# Altium integrated library ALTIUM-WE-LQSH-rev18a.IntLib: 28 symbols
Pins are listed as number, name and electrical type; pins without a type are passive.

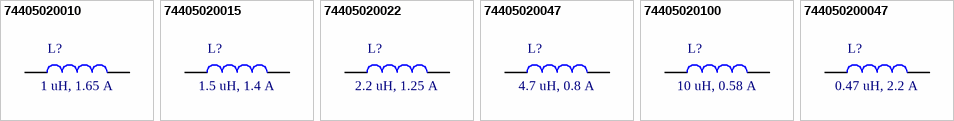
[diagram p0: symbols 74405020010 to 744050200047]

## 74405020010
designator L?, comment 1 uH, 1.65 A
SMT Semi-Shielded High Saturation Power Inductor WE-LQSH, size 2010, 1 uH, 1.65 A; Part Number: 74405020010; Rated Current: 1.65 A; Inductance: 1 uH; DC Resistance max.: 90 mOhm; Self Resonant Frequency: 84 MHz; Saturation Current: 3.85 A; Peak Voltage max.: 25 V; ComponentLink1Description: Manufacturer; ComponentLink1URL: http://www.we-online.de; ComponentLink2Description: Datasheet; ComponentLink2URL: https://katalog.we-online.de/pbs/datasheet/74405020010.pdf; Published Date: November 2018; Publisher: Wurth Elektronik; Size: 2010; Operating Temperature: -40 to +125 degC; Mounting Technology: SMT; Packaging: Tape and Reel
footprint WE-LQSH_2010
pins: 1, 2

## 74405020015
designator L?, comment 1.5 uH, 1.4 A
SMT Semi-Shielded High Saturation Power Inductor WE-LQSH, size 2010, 1.5 uH, 1.4 A; Part Number: 74405020015; Rated Current: 1.4 A; Inductance: 1.5 uH; DC Resistance max.: 132 mOhm; Self Resonant Frequency: 74 MHz; Saturation Current: 2.3 A; Peak Voltage max.: 25 V; ComponentLink1Description: Manufacturer; ComponentLink1URL: http://www.we-online.de; ComponentLink2Description: Datasheet; ComponentLink2URL: https://katalog.we-online.de/pbs/datasheet/74405020015.pdf; Published Date: November 2018; Publisher: Wurth Elektronik; Size: 2010; Operating Temperature: -40 to +125 degC; Mounting Technology: SMT; Packaging: Tape and Reel
footprint WE-LQSH_2010
pins: 1, 2

## 74405020022
designator L?, comment 2.2 uH, 1.25 A
SMT Semi-Shielded High Saturation Power Inductor WE-LQSH, size 2010, 2.2 uH, 1.25 A; Part Number: 74405020022; Rated Current: 1.25 A; Inductance: 2.2 uH; DC Resistance max.: 170 mOhm; Self Resonant Frequency: 53 MHz; Saturation Current: 2.15 A; Peak Voltage max.: 25 V; ComponentLink1Description: Manufacturer; ComponentLink1URL: http://www.we-online.de; ComponentLink2Description: Datasheet; ComponentLink2URL: https://katalog.we-online.de/pbs/datasheet/74405020022.pdf; Published Date: November 2018; Publisher: Wurth Elektronik; Size: 2010; Operating Temperature: -40 to +125 degC; Mounting Technology: SMT; Packaging: Tape and Reel
footprint WE-LQSH_2010
pins: 1, 2

## 74405020047
designator L?, comment 4.7 uH, 0.8 A
SMT Semi-Shielded High Saturation Power Inductor WE-LQSH, size 2010, 4.7 uH, 0.8 A; Part Number: 74405020047; Rated Current: 0.8 A; Inductance: 4.7 uH; DC Resistance max.: 444 mOhm; Self Resonant Frequency: 35 MHz; Saturation Current: 1.5 A; Peak Voltage max.: 25 V; ComponentLink1Description: Manufacturer; ComponentLink1URL: http://www.we-online.de; ComponentLink2Description: Datasheet; ComponentLink2URL: https://katalog.we-online.de/pbs/datasheet/74405020047.pdf; Published Date: November 2018; Publisher: Wurth Elektronik; Size: 2010; Operating Temperature: -40 to +125 degC; Mounting Technology: SMT; Packaging: Tape and Reel
footprint WE-LQSH_2010
pins: 1, 2

## 74405020100
designator L?, comment 10 uH, 0.58 A
SMT Semi-Shielded High Saturation Power Inductor WE-LQSH, size 2010, 10 uH, 0.58 A; Part Number: 74405020100; Rated Current: 0.58 A; Inductance: 10 uH; DC Resistance max.: 816 mOhm; Self Resonant Frequency: 22 MHz; Saturation Current: 0.95 A; Peak Voltage max.: 25 V; ComponentLink1Description: Manufacturer; ComponentLink1URL: http://www.we-online.de; ComponentLink2Description: Datasheet; ComponentLink2URL: https://katalog.we-online.de/pbs/datasheet/74405020100.pdf; Published Date: November 2018; Publisher: Wurth Elektronik; Size: 2010; Operating Temperature: -40 to +125 degC; Mounting Technology: SMT; Packaging: Tape and Reel
footprint WE-LQSH_2010
pins: 1, 2

## 744050200047
designator L?, comment 0.47 uH, 2.2 A
SMT Semi-Shielded High Saturation Power Inductor WE-LQSH, size 2010, 0.47 uH, 2.2 A; Part Number: 744050200047; Rated Current: 2.2 A; Inductance: 0.47 uH; DC Resistance max.: 49 mOhm; Self Resonant Frequency: 159 MHz; Saturation Current: 4.7 A; Peak Voltage max.: 25 V; ComponentLink1Description: Manufacturer; ComponentLink1URL: http://www.we-online.de; ComponentLink2Description: Datasheet; ComponentLink2URL: https://katalog.we-online.de/pbs/datasheet/744050200047.pdf; Published Date: November 2018; Publisher: Wurth Elektronik; Size: 2010; Operating Temperature: -40 to +125 degC; Mounting Technology: SMT; Packaging: Tape and Reel
footprint WE-LQSH_2010
pins: 1, 2


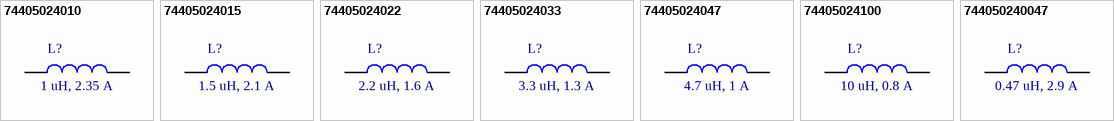
[diagram p1: symbols 74405024010 to 744050240047]

## 74405024010
designator L?, comment 1 uH, 2.35 A
SMT Semi-Shielded High Saturation Power Inductor WE-LQSH, size 2512, 1 uH, 2.35 A; Part Number: 74405024010; Rated Current: 2.35 A; Inductance: 1 uH; DC Resistance max.: 58 mOhm; Self Resonant Frequency: 87 MHz; Saturation Current: 4.2 A; Peak Voltage max.: 25 V; ComponentLink1Description: Manufacturer; ComponentLink1URL: http://www.we-online.de; ComponentLink2Description: Datasheet; ComponentLink2URL: https://katalog.we-online.de/pbs/datasheet/74405024010.pdf; Published Date: November 2018; Publisher: Wurth Elektronik; Size: 2512; Operating Temperature: -40 to +125 degC; Mounting Technology: SMT; Packaging: Tape and Reel
footprint WE-LQSH_2512
pins: 1, 2

## 74405024015
designator L?, comment 1.5 uH, 2.1 A
SMT Semi-Shielded High Saturation Power Inductor WE-LQSH, size 2512, 1.5 uH, 2.1 A; Part Number: 74405024015; Rated Current: 2.1 A; Inductance: 1.5 uH; DC Resistance max.: 72 mOhm; Self Resonant Frequency: 68 MHz; Saturation Current: 3.5 A; Peak Voltage max.: 25 V; ComponentLink1Description: Manufacturer; ComponentLink1URL: http://www.we-online.de; ComponentLink2Description: Datasheet; ComponentLink2URL: https://katalog.we-online.de/pbs/datasheet/74405024015.pdf; Published Date: November 2018; Publisher: Wurth Elektronik; Size: 2512; Operating Temperature: -40 to +125 degC; Mounting Technology: SMT; Packaging: Tape and Reel
footprint WE-LQSH_2512
pins: 1, 2

## 74405024022
designator L?, comment 2.2 uH, 1.6 A
SMT Semi-Shielded High Saturation Power Inductor WE-LQSH, size 2512, 2.2 uH, 1.6 A; Part Number: 74405024022; Rated Current: 1.6 A; Inductance: 2.2 uH; DC Resistance max.: 120 mOhm; Self Resonant Frequency: 46 MHz; Saturation Current: 3 A; Peak Voltage max.: 25 V; ComponentLink1Description: Manufacturer; ComponentLink1URL: http://www.we-online.de; ComponentLink2Description: Datasheet; ComponentLink2URL: https://katalog.we-online.de/pbs/datasheet/74405024022.pdf; Published Date: November 2018; Publisher: Wurth Elektronik; Size: 2512; Operating Temperature: -40 to +125 degC; Mounting Technology: SMT; Packaging: Tape and Reel
footprint WE-LQSH_2512
pins: 1, 2

## 74405024033
designator L?, comment 3.3 uH, 1.3 A
SMT Semi-Shielded High Saturation Power Inductor WE-LQSH, size 2512, 3.3 uH, 1.3 A; Part Number: 74405024033; Rated Current: 1.3 A; Inductance: 3.3 uH; DC Resistance max.: 163 mOhm; Self Resonant Frequency: 37 MHz; Saturation Current: 2.1 A; Peak Voltage max.: 25 V; ComponentLink1Description: Manufacturer; ComponentLink1URL: http://www.we-online.de; ComponentLink2Description: Datasheet; ComponentLink2URL: https://katalog.we-online.de/pbs/datasheet/74405024033.pdf; Published Date: November 2018; Publisher: Wurth Elektronik; Size: 2512; Operating Temperature: -40 to +125 degC; Mounting Technology: SMT; Packaging: Tape and Reel
footprint WE-LQSH_2512
pins: 1, 2

## 74405024047
designator L?, comment 4.7 uH, 1 A
SMT Semi-Shielded High Saturation Power Inductor WE-LQSH, size 2512, 4.7 uH, 1 A; Part Number: 74405024047; Rated Current: 1 A; Inductance: 4.7 uH; DC Resistance max.: 270 mOhm; Self Resonant Frequency: 30 MHz; Saturation Current: 1.9 A; Peak Voltage max.: 25 V; ComponentLink1Description: Manufacturer; ComponentLink1URL: http://www.we-online.de; ComponentLink2Description: Datasheet; ComponentLink2URL: https://katalog.we-online.de/pbs/datasheet/74405024047.pdf; Published Date: November 2018; Publisher: Wurth Elektronik; Size: 2512; Operating Temperature: -40 to +125 degC; Mounting Technology: SMT; Packaging: Tape and Reel
footprint WE-LQSH_2512
pins: 1, 2

## 74405024100
designator L?, comment 10 uH, 0.8 A
SMT Semi-Shielded High Saturation Power Inductor WE-LQSH, size 2512, 10 uH, 0.8 A; Part Number: 74405024100; Rated Current: 0.8 A; Inductance: 10 uH; DC Resistance max.: 522 mOhm; Self Resonant Frequency: 20 MHz; Saturation Current: 1.2 A; Peak Voltage max.: 25 V; ComponentLink1Description: Manufacturer; ComponentLink1URL: http://www.we-online.de; ComponentLink2Description: Datasheet; ComponentLink2URL: https://katalog.we-online.de/pbs/datasheet/74405024100.pdf; Published Date: November 2018; Publisher: Wurth Elektronik; Size: 2512; Operating Temperature: -40 to +125 degC; Mounting Technology: SMT; Packaging: Tape and Reel
footprint WE-LQSH_2512
pins: 1, 2

## 744050240047
designator L?, comment 0.47 uH, 2.9 A
SMT Semi-Shielded High Saturation Power Inductor WE-LQSH, size 2512, 0.47 uH, 2.9 A; Part Number: 744050240047; Rated Current: 2.9 A; Inductance: 0.47 uH; DC Resistance max.: 35 mOhm; Self Resonant Frequency: 129 MHz; Saturation Current: 5.6 A; Peak Voltage max.: 25 V; ComponentLink1Description: Manufacturer; ComponentLink1URL: http://www.we-online.de; ComponentLink2Description: Datasheet; ComponentLink2URL: https://katalog.we-online.de/pbs/datasheet/744050240047.pdf; Published Date: November 2018; Publisher: Wurth Elektronik; Size: 2512; Operating Temperature: -40 to +125 degC; Mounting Technology: SMT; Packaging: Tape and Reel
footprint WE-LQSH_2512
pins: 1, 2


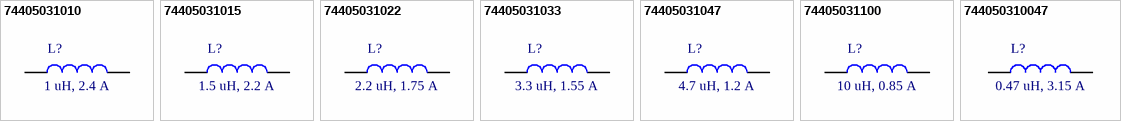
[diagram p2: symbols 74405031010 to 744050310047]

## 74405031010
designator L?, comment 1 uH, 2.4 A
SMT Semi-Shielded High Saturation Power Inductor WE-LQSH, size 3012, 1 uH, 2.4 A; Part Number: 74405031010; Rated Current: 2.4 A; Inductance: 1 uH; DC Resistance max.: 54 mOhm; Self Resonant Frequency: 66 MHz; Saturation Current: 5.4 A; Peak Voltage max.: 25 V; ComponentLink1Description: Manufacturer; ComponentLink1URL: http://www.we-online.de; ComponentLink2Description: Datasheet; ComponentLink2URL: https://katalog.we-online.de/pbs/datasheet/74405031010.pdf; Published Date: November 2018; Publisher: Wurth Elektronik; Size: 3012; Operating Temperature: -40 to +125 degC; Mounting Technology: SMT; Packaging: Tape and Reel
footprint WE-LQSH_3012
pins: 1, 2

## 74405031015
designator L?, comment 1.5 uH, 2.2 A
SMT Semi-Shielded High Saturation Power Inductor WE-LQSH, size 3012, 1.5 uH, 2.2 A; Part Number: 74405031015; Rated Current: 2.2 A; Inductance: 1.5 uH; DC Resistance max.: 77 mOhm; Self Resonant Frequency: 60 MHz; Saturation Current: 4.1 A; Peak Voltage max.: 25 V; ComponentLink1Description: Manufacturer; ComponentLink1URL: http://www.we-online.de; ComponentLink2Description: Datasheet; ComponentLink2URL: https://katalog.we-online.de/pbs/datasheet/74405031015.pdf; Published Date: November 2018; Publisher: Wurth Elektronik; Size: 3012; Operating Temperature: -40 to +125 degC; Mounting Technology: SMT; Packaging: Tape and Reel
footprint WE-LQSH_3012
pins: 1, 2

## 74405031022
designator L?, comment 2.2 uH, 1.75 A
SMT Semi-Shielded High Saturation Power Inductor WE-LQSH, size 3012, 2.2 uH, 1.75 A; Part Number: 74405031022; Rated Current: 1.75 A; Inductance: 2.2 uH; DC Resistance max.: 108 mOhm; Self Resonant Frequency: 46 MHz; Saturation Current: 3.35 A; Peak Voltage max.: 25 V; ComponentLink1Description: Manufacturer; ComponentLink1URL: http://www.we-online.de; ComponentLink2Description: Datasheet; ComponentLink2URL: https://katalog.we-online.de/pbs/datasheet/74405031022.pdf; Published Date: November 2018; Publisher: Wurth Elektronik; Size: 3012; Operating Temperature: -40 to +125 degC; Mounting Technology: SMT; Packaging: Tape and Reel
footprint WE-LQSH_3012
pins: 1, 2

## 74405031033
designator L?, comment 3.3 uH, 1.55 A
SMT Semi-Shielded High Saturation Power Inductor WE-LQSH, size 3012, 3.3 uH, 1.55 A; Part Number: 74405031033; Rated Current: 1.55 A; Inductance: 3.3 uH; DC Resistance max.: 155 mOhm; Self Resonant Frequency: 39 MHz; Saturation Current: 2.6 A; Peak Voltage max.: 25 V; ComponentLink1Description: Manufacturer; ComponentLink1URL: http://www.we-online.de; ComponentLink2Description: Datasheet; ComponentLink2URL: https://katalog.we-online.de/pbs/datasheet/74405031033.pdf; Published Date: November 2018; Publisher: Wurth Elektronik; Size: 3012; Operating Temperature: -40 to +125 degC; Mounting Technology: SMT; Packaging: Tape and Reel
footprint WE-LQSH_3012
pins: 1, 2

## 74405031047
designator L?, comment 4.7 uH, 1.2 A
SMT Semi-Shielded High Saturation Power Inductor WE-LQSH, size 3012, 4.7 uH, 1.2 A; Part Number: 74405031047; Rated Current: 1.2 A; Inductance: 4.7 uH; DC Resistance max.: 235 mOhm; Self Resonant Frequency: 30 MHz; Saturation Current: 2.5 A; Peak Voltage max.: 25 V; ComponentLink1Description: Manufacturer; ComponentLink1URL: http://www.we-online.de; ComponentLink2Description: Datasheet; ComponentLink2URL: https://katalog.we-online.de/pbs/datasheet/74405031047.pdf; Published Date: November 2018; Publisher: Wurth Elektronik; Size: 3012; Operating Temperature: -40 to +125 degC; Mounting Technology: SMT; Packaging: Tape and Reel
footprint WE-LQSH_3012
pins: 1, 2

## 74405031100
designator L?, comment 10 uH, 0.85 A
SMT Semi-Shielded High Saturation Power Inductor WE-LQSH, size 3012, 10 uH, 0.85 A; Part Number: 74405031100; Rated Current: 0.85 A; Inductance: 10 uH; DC Resistance max.: 474 mOhm; Self Resonant Frequency: 21 MHz; Saturation Current: 1.45 A; Peak Voltage max.: 25 V; ComponentLink1Description: Manufacturer; ComponentLink1URL: http://www.we-online.de; ComponentLink2Description: Datasheet; ComponentLink2URL: https://katalog.we-online.de/pbs/datasheet/74405031100.pdf; Published Date: November 2018; Publisher: Wurth Elektronik; Size: 3012; Operating Temperature: -40 to +125 degC; Mounting Technology: SMT; Packaging: Tape and Reel
footprint WE-LQSH_3012
pins: 1, 2

## 744050310047
designator L?, comment 0.47 uH, 3.15 A
SMT Semi-Shielded High Saturation Power Inductor WE-LQSH, size 3012, 0.47 uH, 3.15 A; Part Number: 744050310047; Rated Current: 3.15 A; Inductance: 0.47 uH; DC Resistance max.: 34 mOhm; Self Resonant Frequency: 121 MHz; Saturation Current: 8 A; Peak Voltage max.: 25 V; ComponentLink1Description: Manufacturer; ComponentLink1URL: http://www.we-online.de; ComponentLink2Description: Datasheet; ComponentLink2URL: https://katalog.we-online.de/pbs/datasheet/744050310047.pdf; Published Date: November 2018; Publisher: Wurth Elektronik; Size: 3012; Operating Temperature: -40 to +125 degC; Mounting Technology: SMT; Packaging: Tape and Reel
footprint WE-LQSH_3012
pins: 1, 2


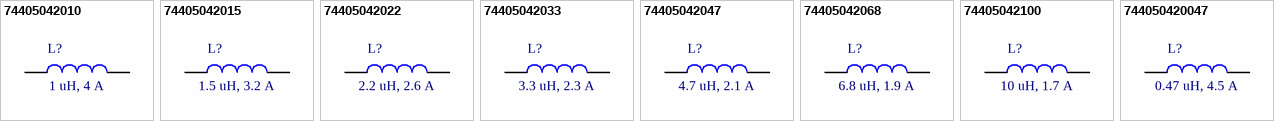
[diagram p3: symbols 74405042010 to 744050420047]

## 74405042010
designator L?, comment 1 uH, 4 A
SMT Semi-Shielded High Saturation Power Inductor WE-LQSH, size 4020, 1 uH, 4 A; Part Number: 74405042010; Rated Current: 4 A; Inductance: 1 uH; DC Resistance max.: 26 mOhm; Self Resonant Frequency: 55 MHz; Saturation Current: 9.5 A; Peak Voltage max.: 25 V; ComponentLink1Description: Manufacturer; ComponentLink1URL: http://www.we-online.de; ComponentLink2Description: Datasheet; ComponentLink2URL: https://katalog.we-online.de/pbs/datasheet/74405042010.pdf; Published Date: November 2018; Publisher: Wurth Elektronik; Size: 4020; Operating Temperature: -40 to +125 degC; Mounting Technology: SMT; Packaging: Tape and Reel
footprint WE-LQSH_4020
pins: 1, 2

## 74405042015
designator L?, comment 1.5 uH, 3.2 A
SMT Semi-Shielded High Saturation Power Inductor WE-LQSH, size 4020, 1.5 uH, 3.2 A; Part Number: 74405042015; Rated Current: 3.2 A; Inductance: 1.5 uH; DC Resistance max.: 36 mOhm; Self Resonant Frequency: 45 MHz; Saturation Current: 8.7 A; Peak Voltage max.: 25 V; ComponentLink1Description: Manufacturer; ComponentLink1URL: http://www.we-online.de; ComponentLink2Description: Datasheet; ComponentLink2URL: https://katalog.we-online.de/pbs/datasheet/74405042015.pdf; Published Date: November 2018; Publisher: Wurth Elektronik; Size: 4020; Operating Temperature: -40 to +125 degC; Mounting Technology: SMT; Packaging: Tape and Reel
footprint WE-LQSH_4020
pins: 1, 2

## 74405042022
designator L?, comment 2.2 uH, 2.6 A
SMT Semi-Shielded High Saturation Power Inductor WE-LQSH, size 4020, 2.2 uH, 2.6 A; Part Number: 74405042022; Rated Current: 2.6 A; Inductance: 2.2 uH; DC Resistance max.: 48 mOhm; Self Resonant Frequency: 33 MHz; Saturation Current: 7.6 A; Peak Voltage max.: 25 V; ComponentLink1Description: Manufacturer; ComponentLink1URL: http://www.we-online.de; ComponentLink2Description: Datasheet; ComponentLink2URL: https://katalog.we-online.de/pbs/datasheet/74405042022.pdf; Published Date: November 2018; Publisher: Wurth Elektronik; Size: 4020; Operating Temperature: -40 to +125 degC; Mounting Technology: SMT; Packaging: Tape and Reel
footprint WE-LQSH_4020
pins: 1, 2

## 74405042033
designator L?, comment 3.3 uH, 2.3 A
SMT Semi-Shielded High Saturation Power Inductor WE-LQSH, size 4020, 3.3 uH, 2.3 A; Part Number: 74405042033; Rated Current: 2.3 A; Inductance: 3.3 uH; DC Resistance max.: 72 mOhm; Self Resonant Frequency: 27 MHz; Saturation Current: 5.9 A; Peak Voltage max.: 25 V; ComponentLink1Description: Manufacturer; ComponentLink1URL: http://www.we-online.de; ComponentLink2Description: Datasheet; ComponentLink2URL: https://katalog.we-online.de/pbs/datasheet/74405042033.pdf; Published Date: November 2018; Publisher: Wurth Elektronik; Size: 4020; Operating Temperature: -40 to +125 degC; Mounting Technology: SMT; Packaging: Tape and Reel
footprint WE-LQSH_4020
pins: 1, 2

## 74405042047
designator L?, comment 4.7 uH, 2.1 A
SMT Semi-Shielded High Saturation Power Inductor WE-LQSH, size 4020, 4.7 uH, 2.1 A; Part Number: 74405042047; Rated Current: 2.1 A; Inductance: 4.7 uH; DC Resistance max.: 108 mOhm; Self Resonant Frequency: 25 MHz; Saturation Current: 4.9 A; Peak Voltage max.: 25 V; ComponentLink1Description: Manufacturer; ComponentLink1URL: http://www.we-online.de; ComponentLink2Description: Datasheet; ComponentLink2URL: https://katalog.we-online.de/pbs/datasheet/74405042047.pdf; Published Date: November 2018; Publisher: Wurth Elektronik; Size: 4020; Operating Temperature: -40 to +125 degC; Mounting Technology: SMT; Packaging: Tape and Reel
footprint WE-LQSH_4020
pins: 1, 2

## 74405042068
designator L?, comment 6.8 uH, 1.9 A
SMT Semi-Shielded High Saturation Power Inductor WE-LQSH, size 4020, 6.8 uH, 1.9 A; Part Number: 74405042068; Rated Current: 1.9 A; Inductance: 6.8 uH; DC Resistance max.: 156 mOhm; Self Resonant Frequency: 19 MHz; Saturation Current: 4.2 A; Peak Voltage max.: 25 V; ComponentLink1Description: Manufacturer; ComponentLink1URL: http://www.we-online.de; ComponentLink2Description: Datasheet; ComponentLink2URL: https://katalog.we-online.de/pbs/datasheet/74405042068.pdf; Published Date: November 2018; Publisher: Wurth Elektronik; Size: 4020; Operating Temperature: -40 to +125 degC; Mounting Technology: SMT; Packaging: Tape and Reel
footprint WE-LQSH_4020
pins: 1, 2

## 74405042100
designator L?, comment 10 uH, 1.7 A
SMT Semi-Shielded High Saturation Power Inductor WE-LQSH, size 4020, 10 uH, 1.7 A; Part Number: 74405042100; Rated Current: 1.7 A; Inductance: 10 uH; DC Resistance max.: 216 mOhm; Self Resonant Frequency: 16 MHz; Saturation Current: 3.5 A; Peak Voltage max.: 25 V; ComponentLink1Description: Manufacturer; ComponentLink1URL: http://www.we-online.de; ComponentLink2Description: Datasheet; ComponentLink2URL: https://katalog.we-online.de/pbs/datasheet/74405042100.pdf; Published Date: November 2018; Publisher: Wurth Elektronik; Size: 4020; Operating Temperature: -40 to +125 degC; Mounting Technology: SMT; Packaging: Tape and Reel
footprint WE-LQSH_4020
pins: 1, 2

## 744050420047
designator L?, comment 0.47 uH, 4.5 A
SMT Semi-Shielded High Saturation Power Inductor WE-LQSH, size 4020, 0.47 uH, 4.5 A; Part Number: 744050420047; Rated Current: 4.5 A; Inductance: 0.47 uH; DC Resistance max.: 22 mOhm; Self Resonant Frequency: 89 MHz; Saturation Current: 15.5 A; Peak Voltage max.: 25 V; ComponentLink1Description: Manufacturer; ComponentLink1URL: http://www.we-online.de; ComponentLink2Description: Datasheet; ComponentLink2URL: https://katalog.we-online.de/pbs/datasheet/744050420047.pdf; Published Date: November 2018; Publisher: Wurth Elektronik; Size: 4020; Operating Temperature: -40 to +125 degC; Mounting Technology: SMT; Packaging: Tape and Reel
footprint WE-LQSH_4020
pins: 1, 2